# Altium footprint library Dronepcb.PcbLib: 33 footprints (part 2 of 3)
Each footprint in its own frame and in the unit in brackets; x right, y up, seen from the top. Pads: shape width x height; smd on the part's side, far side on the other; paste and mask are expansions set on the pad; w line width, h text height; cw(c..) or ccw(c..) is an arc to the next point about the centre after c.
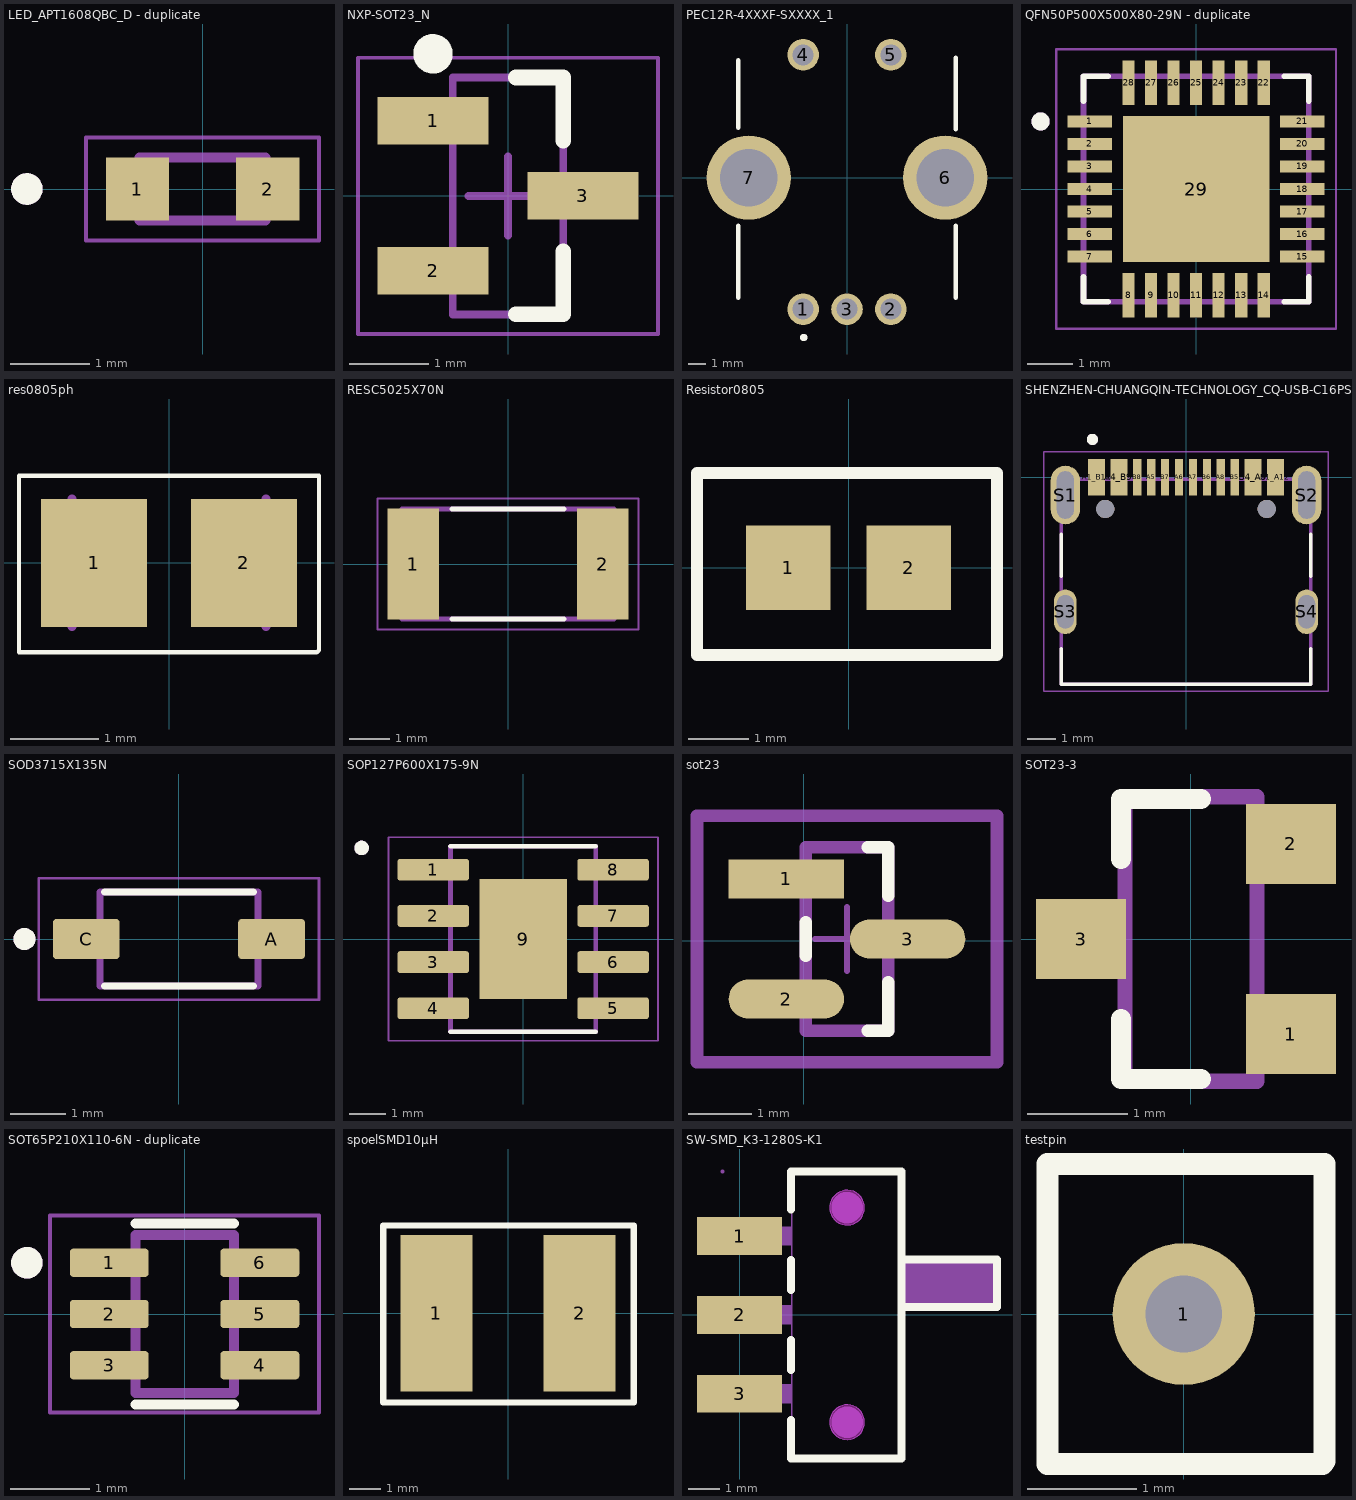
[diagram p1: the footprints below, top view; thin cyan lines are the x and y axes]

## LED_APT1608QBC_D - duplicate [mm]
height 0.75
pads (2):
  rect 0.8x0.8 smd: 1(-0.825,0) 2(0.825,0)
Top Overlay:
  circle w0.2: c-2.225,0 r0.1
Mechanical 13:
  circle w0.2: c-2.225,0 r0.1
  lines w0.127: -0.8,-0.4 -0.8,0.4 0.8,0.4 0.8,-0.4 -0.8,-0.4
Mechanical 15:
  lines w0.05: -1.475,-0.65 1.475,-0.65 1.475,0.65 -1.475,0.65 -1.475,-0.65

## NXP-SOT23_N [mm] "SOT23, 3-Leads, Body 3x1.4mm, Pitch 0.95mm, IPC Medium Density"
height 1.1
pads (3):
  rect 1.4x0.6 smd: 1(-0.95,0.95) 2(-0.95,-0.95) 3(0.95,0)
Top Overlay:
  circle w0.25: c-0.95,1.8 r0.125
  lines w0.2: 0.1,-1.5 0.7,-1.5 0.7,-0.7 ; 0.1,1.5 0.7,1.5 0.7,0.7
Mechanical 13:
  lines w0.1: -0.7,-1.5 -0.7,1.5 0.7,1.5 0.7,-1.5 -0.7,-1.5
Mechanical 15:
  lines w0.05: -1.9,-1.75 -1.9,1.75 1.9,1.75 1.9,-1.75 -1.9,-1.75
  lines w0.1: -0.5,0 0.5,0 ; 0,-0.5 0,0.5
3D body: height 1.1, standoff 0, extent -0.7,-1.5 0.7,1.5

## PEC12R-4XXXF-SXXXX_1 [mm]
pads (7):
  round 1.8 hole 1.2: 1(-2.5,-7.5) 2(2.5,-7.5) 3(0,-7.5) 4(-2.5,7) 5(2.5,7)
  round 4.8 hole 3.28: 6(5.6,0) 7(-5.6,0)
Top Overlay:
  circle w0.254: c-2.464,-9.119 r0.082
  lines w0.254: -6.2,6.7 -6.198,2.845 ; -6.198,-6.843 -6.198,-2.743 ; 6.198,-6.843 6.198,-2.743 ; 6.198,2.743 6.198,6.843

## QFN50P500X500X80-29N - duplicate [mm]
height 0.8
pads (29):
  rect 0.99x0.27 smd paste+0 mask+0.102: 1(-2.36,1.5) 2(-2.36,1) 3(-2.36,0.5) 4(-2.36,0) 5(-2.36,-0.5) 6(-2.36,-1) 7(-2.36,-1.5) 15(2.36,-1.5) 16(2.36,-1) 17(2.36,-0.5) 18(2.36,0) 19(2.36,0.5) 20(2.36,1) 21(2.36,1.5)
  rect 0.27x0.99 smd paste+0 mask+0.102: 8(-1.5,-2.36) 9(-1,-2.36) 10(-0.5,-2.36) 11(0,-2.36) 12(0.5,-2.36) 13(1,-2.36) 14(1.5,-2.36) 22(1.5,2.36) 23(1,2.36) 24(0.5,2.36) 25(0,2.36) 26(-0.5,2.36) 27(-1,2.36) 28(-1.5,2.36)
  rect 3.25x3.25 smd paste-0.597 mask+0.102: 29(0,0)
Top Overlay:
  circle w0.2: c-3.455,1.5 r0.1
  lines w0.127: -2.5,-1.955 -2.5,-2.5 -1.955,-2.5 ; -2.5,1.955 -2.5,2.5 -1.955,2.5 ; 1.955,-2.5 2.5,-2.5 2.5,-1.955 ; 1.955,2.5 2.5,2.5 2.5,1.955
Mechanical 13:
  circle w0.2: c-3.455,1.5 r0.1
  lines w0.127: -2.5,-2.5 -2.5,2.5 2.5,2.5 2.5,-2.5 -2.5,-2.5
Mechanical 15:
  lines w0.05: -3.105,-3.105 3.105,-3.105 3.105,3.105 -3.105,3.105 -3.105,-3.105
3D body "step_temp.STEP": height 0.8, standoff 0, extent -2.5,-2.5 2.5,2.5

## res0805ph [mm] "Chip Resistor, 2-Leads, Body 2.00x1.25mm, IPC Medium Density"
height 0.6
pads (2):
  rect 1.2x1.45 smd: 1(-0.85,0) 2(0.85,0)
Top Overlay:
  lines w0.05: -1.702,-1.016 1.676,-1.016 1.702,-0.991 1.702,0.991 -1.702,0.991 -1.702,-1.016
Mechanical 13:
  lines w0.1: -1.1,-0.725 -1.1,0.725 ; 1.1,-0.725 1.1,0.725
3D body: height 0.6, standoff 0, extent -1.1,-0.725 -0.7,0.725
3D body: height 0.6, standoff 0, extent 0.7,-0.725 1.1,0.725

## RESC5025X70N [mm]
pads (2):
  rect 1.26x2.72 smd: 1(-2.325,0) 2(2.325,0)
Top Overlay:
  lines w0.127: -1.37,-1.35 1.37,-1.35 ; -1.37,1.35 1.37,1.35
Mechanical 13:
  lines w0.127: -2.6,-1.35 -2.6,1.35 2.6,1.35 2.6,-1.35 -2.6,-1.35
Mechanical 15:
  lines w0.05: -3.208,-1.608 -3.208,1.608 3.208,1.608 3.208,-1.608 -3.208,-1.608
3D body "step_temp.STEP": height 0.7, standoff 0, extent -2.5,-1.25 2.5,1.25

## Resistor0805 [mm]
pads (2):
  rect 1.4x1.4 smd: 1(-1,0) 2(1,0)
Top Overlay:
  lines w0.2: -2.515,-1.448 -2.515,-0.985 -2.515,1.575 2.464,1.575 2.464,-1.448 -2.515,-1.448

## SHENZHEN-CHUANGQIN-TECHNOLOGY_CQ-USB-C16PSMT01 [mm]
height 3.36
pads (18):
  rect 0.6x1.3 smd: A1_B12(-3.2,0) A4_B9(-2.4,0) B1_A12(3.2,0) B4_A9(2.4,0)
  rect 0.3x1.3 smd: A5(-1.25,0) A6(-0.25,0) A7(0.25,0) A8(1.25,0) B5(1.75,0) B6(0.75,0) B7(-0.75,0) B8(-1.75,0)
  oval 1.05x2.1 hole 0.6 slot 1.7 at 90 deg: S1(-4.32,-0.64) S2(4.32,-0.64)
  oval 0.8x1.6 hole 0.6 slot 1.2 at 90 deg: S3(-4.32,-4.82) S4(4.32,-4.82)
  round 0.65 hole 0.65 unplated: ""(-2.89,-1.14) ""(2.89,-1.14)
Top Overlay:
  circle w0.2: c-3.35,1.35 r0.1
  lines w0.127: -4.47,-6.15 -4.47,-7.42 4.47,-7.42 4.47,-6.15 ; -4.47,-3.55 -4.47,-2.05 ; 4.47,-3.55 4.47,-2.05
Mechanical 13:
  circle w0.2: c-3.35,1.35 r0.1
  lines w0.127: -4.47,-7.42 4.47,-7.42 4.47,-0.07 -4.47,-0.07 -4.47,-7.42
Mechanical 15:
  lines w0.05: -5.095,-7.67 5.095,-7.67 5.095,0.9 -5.095,0.9 -5.095,-7.67
3D body "step_temp.STEP": height 3.26, standoff -0.8, extent -4.47,-3.905 4.47,3.905

## SOD3715X135N [mm]
pads (2):
  rrect18% 1.21x0.73 smd paste+0 mask+0.102: A(1.68,0) C(-1.68,0)
Top Overlay:
  circle w0.2: c-2.8,0 r0.1
  lines w0.127: -1.35,-0.85 1.35,-0.85 ; -1.35,0.85 1.35,0.85
Mechanical 13:
  circle w0.2: c-2.8,0 r0.1
  lines w0.127: -1.43,-0.85 1.43,-0.85 1.43,0.85 -1.43,0.85 -1.43,-0.85
Mechanical 15:
  lines w0.05: -2.54,-1.1 2.54,-1.1 2.54,1.1 -2.54,1.1 -2.54,-1.1
3D body "step_temp.STEP": height 1.1, standoff -0.5, extent 0,-1.1 3.8,-0.1

## SOP127P600X175-9N [mm]
height 1.75
pads (9):
  rrect25% 1.97x0.6 smd: 1(-2.475,1.905) 2(-2.475,0.635) 3(-2.475,-0.635) 4(-2.475,-1.905) 5(2.475,-1.905) 6(2.475,-0.635) 7(2.475,0.635) 8(2.475,1.905)
  rect 2.413x3.302 smd paste-3: 9(0,0)
Top Overlay:
  circle w0.2: c-4.445,2.505 r0.1
  lines w0.127: -2,-2.55 2,-2.55 ; -2,2.55 2,2.55
Top Paste:
  region: 0.645,-0.82 -0.645,-0.82 -0.645,0.82 0.645,0.82
Mechanical 13:
  circle w0.2: c-4.445,2.505 r0.1
  lines w0.127: -2,-2.55 2,-2.55 2,2.55 -2,2.55 -2,-2.55
Mechanical 15:
  lines w0.05: -3.71,-2.8 3.71,-2.8 3.71,2.8 -3.71,2.8 -3.71,-2.8
3D body "step_temp.STEP": height 1.75, standoff 0, extent -3,-2.45 3,2.45

## sot23 [mil]
pads (3):
  rect 71.82x24.33 smd paste+0 mask+0: 1(-10.8,38.4)
  rrect100% 71.82x24.33 smd paste+0 mask+0: 2(-10.8,-36.4) 3(64.8,1)
Top Overlay:
  lines w7.87: 1.41,-9.47 1.41,11.47 ; 39.87,-56.09 52.59,-56.09 52.59,-25.93 ; 39.87,58.09 52.59,58.09 52.59,27.93
Top 3D Body:
  lines w7.87: 1.41,-56.09 52.59,-56.09 52.59,58.09 1.41,58.09 1.41,-56.09
Board:
  lines w7.87: -66.4,-75.77 120.4,-75.77 120.4,77.77 -66.4,77.77 -66.4,-75.77
Top Assembly:
  lines w7.87: -66.4,-75.77 120.4,-75.77 120.4,77.77 -66.4,77.77
Top Component Center:
  lines w3.94: 7.32,1 46.69,1 ; 27,-18.68 27,20.68
3D body "IC_ON_Semiconductor_NUD3112LT1G_eec.STEP": height 10, standoff 0, extent -66.4,-75.77 120.4,77.77

## SOT23-3 [mm]
pads (3):
  rect 0.9x0.8 smd: 1(1,-0.95) 2(1,0.95) 3(-1.1,0)
Top Overlay:
  lines w0.203: -0.7,-0.8 -0.7,-1.4 0.1,-1.4 ; -0.7,0.8 -0.7,1.4 0.1,1.4
Mechanical 13:
  lines w0.152: -0.66,-1.422 -0.66,1.422 0.66,1.422 0.66,-1.422 -0.66,-1.422
3D body "step_temp.STEP": height 1.25, standoff 0, extent -1.4,-1.45 1.4,1.45

## SOT65P210X110-6N - duplicate [mm]
pads (6):
  rrect25% 1x0.36 smd paste+0 mask+0.102: 1(-0.955,0.65) 2(-0.955,0) 3(-0.955,-0.65) 4(0.955,-0.65) 5(0.955,0) 6(0.955,0.65)
Top Overlay:
  circle w0.2: c-2,0.65 r0.1
  lines w0.127: -0.625,-1.15 0.625,-1.15 ; -0.625,1.15 0.625,1.15
Mechanical 13:
  circle w0.2: c-2,0.65 r0.1
  lines w0.127: -0.625,-1 0.625,-1 0.625,1 -0.625,1 -0.625,-1
Mechanical 15:
  lines w0.05: -1.705,-1.25 1.705,-1.25 1.705,1.25 -1.705,1.25 -1.705,-1.25

## spoelSMD10µH [mm]
pads (2):
  rect 2.3x5 smd: 1(-2.286,0) 2(2.286,0)
Top Overlay:
  lines w0.2: -3.977,2.794 -3.977,1.523 -3.977,-2.845 4.013,-2.845 4.013,2.794 ; -3.977,2.805 -1.979,2.805 2.016,2.805 4.013,2.805

## SW-SMD_K3-1280S-K1 [mm]
pads (3):
  rect 2.7x1.2 smd: 1(0,2.5) 2(0,0) 3(0,-2.5)
Top Overlay:
  lines w0.254: 1.63,-3.334 1.63,-4.55 5.13,-4.55 5.13,4.55 1.63,4.55 1.63,3.334 ; 1.63,-1.746 1.63,-0.794 ; 1.63,0.794 1.63,1.746 ; 5.13,0.229 5.13,0.25 8.155,0.25 8.155,1.75 5.13,1.75 5.13,1.739
Keep-Out Layer:
  board cut-out: 3.956,3.4 3.956,3.291 3.872,3.088 3.718,2.934 3.516,2.85 3.297,2.85 3.095,2.934 2.94,3.088 2.856,3.291 2.856,3.4 2.856,3.509 2.94,3.712 3.095,3.866 3.297,3.95 3.516,3.95 3.718,3.866 3.872,3.712 3.956,3.509
  board cut-out: 3.956,-3.4 3.956,-3.509 3.872,-3.712 3.718,-3.866 3.516,-3.95 3.297,-3.95 3.095,-3.866 2.94,-3.712 2.856,-3.509 2.856,-3.4 2.856,-3.291 2.94,-3.088 3.095,-2.934 3.297,-2.85 3.516,-2.85 3.718,-2.934 3.872,-3.088 3.956,-3.291
Keep-Out Layer:
  circle w0.025: c3.406,3.4 r0.55
  circle w0.025: c3.406,-3.4 r0.55
  region: 3.956,3.4 3.956,3.291 3.872,3.088 3.718,2.934 3.516,2.85 3.297,2.85 3.095,2.934 2.94,3.088 2.856,3.291 2.856,3.4 2.856,3.509 2.94,3.712 3.095,3.866 3.297,3.95 3.516,3.95 3.718,3.866 3.872,3.712 3.956,3.509
  region: 3.956,-3.4 3.956,-3.509 3.872,-3.712 3.718,-3.866 3.516,-3.95 3.297,-3.95 3.095,-3.866 2.94,-3.712 2.856,-3.509 2.856,-3.4 2.856,-3.291 2.94,-3.088 3.095,-2.934 3.297,-2.85 3.516,-2.85 3.718,-2.934 3.872,-3.088 3.956,-3.291
Mechanical 1:
  circle w0.025: c3.406,3.4 r0.55
  circle w0.025: c3.406,-3.4 r0.55
Mechanical 6:
  circle w0.5: c3.406,3.4 r0.25
  circle w0.5: c3.406,-3.4 r0.25
  region: 8.155,1.75 8.155,0.22 5.125,0.22 5.125,1.75
Mechanical 15:
  region: -0.484,4.547 -0.484,4.523 -0.519,4.487 -0.569,4.487 -0.604,4.523 -0.604,4.547 -0.604,4.572 -0.569,4.607 -0.519,4.607 -0.484,4.572
  region: 0.246,2.2 0.246,2.8 1.666,2.8 1.666,2.2
  region: -0.544,2.2 -0.544,2.8 0.256,2.8 0.256,2.2
  region: 0.246,-0.3 0.246,0.3 1.666,0.3 1.666,-0.3
  region: -0.544,-0.3 -0.544,0.3 0.256,0.3 0.256,-0.3
  region: 0.246,-2.8 0.246,-2.2 1.666,-2.2 1.666,-2.8
  region: -0.544,-2.8 -0.544,-2.2 0.256,-2.2 0.256,-2.8
  lines w0.051: 1.656,-4.55 1.656,4.547 5.156,4.547 5.156,1.75 8.156,1.75 8.156,0.25 5.156,0.25 5.156,-4.55 1.656,-4.55

## testpin [mm]
pads (1):
  round 1.3 hole 0.7: 1(0,0)
Top Overlay:
  lines w0.2: 1.27,-1.372 -1.245,-1.372 -1.245,1.372 1.286,1.372 1.286,0.025 1.286,-1.346